# Altium integrated library TI Data Converters Analog to Digital Converter.IntLib: 2197 symbols (part 31 of 168)
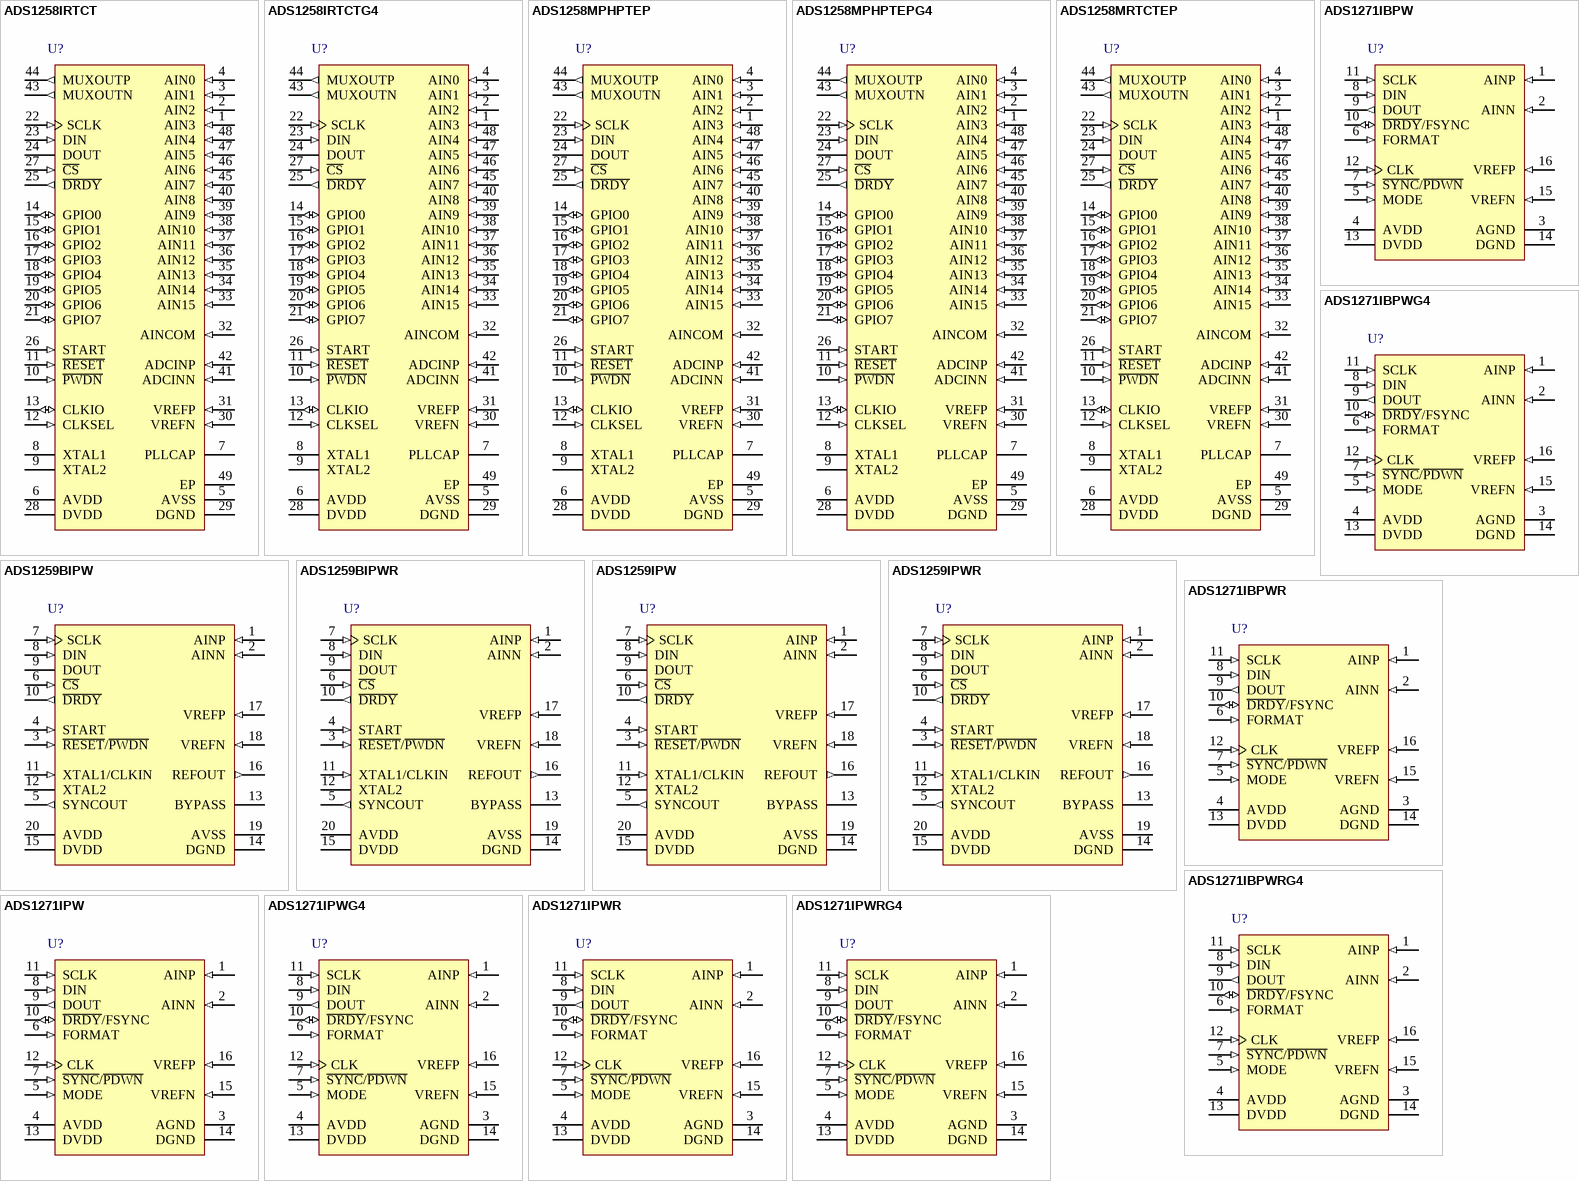
[diagram p156: symbols ADS1258IRTCT to ADS1271IPWRG4]

## ADS1271IPWR
designator U?
24-Bit, 105 kSPS Industrial Delta-Sigma ADC, -40 to 125 degC, 16-pin SOP (PW16), Green (RoHS & no Sb/Br); Manufacturer: Texas Instruments; PartNumber: ADS1271IPWR; # Input Channels: 1; Analog Voltage AV/DD(Max)(V): 5.25; Analog Voltage AV/DD(Min)(V): 4.75; Digital Supply(Max)(V): 3.6; Digital Supply(Min)(V): 1.65; Interface: Serial SPI; Resolution(Bits): 24; Sample Rate (max)(SPS): 105k; SFDR(dB): 108; SNR(dB): 109; SubFamily: Precision ADC (<=10MSPS); DatasheetVersion: SBAS306F; PackageVersion: 4040064-4/G, 02/2011; PackageReference: PW16; PackageDescription: 16-Pin Plastic Small Outline, Body 5 x 4.4 mm, Pitch 0.65 mm; Supplier 1: Digi-Key; Supplier Part Number 1: ADS8505IBDWRG4-ND; Supplier 2: Mouser; Supplier Part Number 2: 595-ADS8505IBDWRG4; Architecture: Delta-Sigma; Eco-Plan: Green (RoHS & no Sb/Br); Mounting Technology: Surface Mount; Code_JEDEC: MO-153; ComponentLink1Description: Manufacturer URL; ComponentLink1URL: http://www.ti.com/; ComponentLink2Description: Datasheet; ComponentLink2URL: http://www.ti.com/general/docs/lit/getliterature.tsp?genericPartNumber=ADS1271&fileType=pdf; ComponentLink3Description: Package Specification; ComponentLink3URL: http://www.ti.com/lit/ml/mpds361/mpds361.pdf
footprint TI-PW16_N (SOP, 16-Leads, Body 5x4.4mm, Pitch 0.65mm, IPC Medium Density)
footprint TI-PW16_L (SOP, 16-Leads, Body 5x4.4mm, Pitch 0.65mm, IPC High Density)
footprint TI-PW16_M (SOP, 16-Leads, Body 5x4.4mm, Pitch 0.65mm, IPC Low Density)
pins: 1 AINP (in) "Positive analog input", 2 AINN (in) "Negative analog input", 3 AGND (power) "Analog ground", 4 AVDD (power) "Analog supply", 5 MODE (in) "MODE = 0: High-Speed mode;MODE = float: High-Resolution mode;MODE = 1: Low-Power mode", 6 FORMAT (in) "FORMAT = 0: SPI;FORMAT = float: Modulator output (ADS1271B only);FORMAT = 1: Frame-Sync", 7 ~{SYNC}/~{PDWN} (in) "Synchronize/Power-down input, active low", 8 DIN (in) "Data input for daisy-chain operation", 9 DOUT (out) "ADC data output, modulator output (modulator mode)", 10 ~{DRDY}/FSYNC (io) "If FORMAT = 0 (SPI), then pin 10 = D\R\D\Y\ output;If FORMAT = 1 (Frame-Sync), then pin 10 = FSYNC input", 11 SCLK (in) "Serial clock for ADC data retrieval, modulator clock output (modulator mode)", 12 CLK (in) "Master clock", 13 DVDD (power) "Digital supply", 14 DGND (power) "Digital ground", 15 VREFN (in) "Negative reference input", 16 VREFP (in) "Positive reference input"

## ADS1271IPWRG4
designator U?
24-Bit, 105 kSPS Industrial Delta-Sigma ADC, -40 to 125 degC, 16-pin SOP (PW16), Green (RoHS & no Sb/Br); Manufacturer: Texas Instruments; PartNumber: ADS1271IPWRG4; # Input Channels: 1; Analog Voltage AV/DD(Max)(V): 5.25; Analog Voltage AV/DD(Min)(V): 4.75; Digital Supply(Max)(V): 3.6; Digital Supply(Min)(V): 1.65; Interface: Serial SPI; Resolution(Bits): 24; Sample Rate (max)(SPS): 105k; SFDR(dB): 108; SNR(dB): 109; SubFamily: Precision ADC (<=10MSPS); DatasheetVersion: SBAS306F; PackageVersion: 4040064-4/G, 02/2011; PackageReference: PW16; PackageDescription: 16-Pin Plastic Small Outline, Body 5 x 4.4 mm, Pitch 0.65 mm; Supplier 1: Digi-Key; Supplier Part Number 1: 296-18678-5-ND; Supplier 2: Farnell; Supplier Part Number 2: 1407071; Supplier 3: Mouser; Supplier Part Number 3: 595-ADS8505IDW; Architecture: Delta-Sigma; Eco-Plan: Green (RoHS & no Sb/Br); Mounting Technology: Surface Mount; Code_JEDEC: MO-153; ComponentLink1Description: Manufacturer URL; ComponentLink1URL: http://www.ti.com/; ComponentLink2Description: Datasheet; ComponentLink2URL: http://www.ti.com/general/docs/lit/getliterature.tsp?genericPartNumber=ADS1271&fileType=pdf; ComponentLink3Description: Package Specification; ComponentLink3URL: http://www.ti.com/lit/ml/mpds361/mpds361.pdf
footprint TI-PW16_N (SOP, 16-Leads, Body 5x4.4mm, Pitch 0.65mm, IPC Medium Density)
footprint TI-PW16_L (SOP, 16-Leads, Body 5x4.4mm, Pitch 0.65mm, IPC High Density)
footprint TI-PW16_M (SOP, 16-Leads, Body 5x4.4mm, Pitch 0.65mm, IPC Low Density)
pins: 1 AINP (in) "Positive analog input", 2 AINN (in) "Negative analog input", 3 AGND (power) "Analog ground", 4 AVDD (power) "Analog supply", 5 MODE (in) "MODE = 0: High-Speed mode;MODE = float: High-Resolution mode;MODE = 1: Low-Power mode", 6 FORMAT (in) "FORMAT = 0: SPI;FORMAT = float: Modulator output (ADS1271B only);FORMAT = 1: Frame-Sync", 7 ~{SYNC}/~{PDWN} (in) "Synchronize/Power-down input, active low", 8 DIN (in) "Data input for daisy-chain operation", 9 DOUT (out) "ADC data output, modulator output (modulator mode)", 10 ~{DRDY}/FSYNC (io) "If FORMAT = 0 (SPI), then pin 10 = D\R\D\Y\ output;If FORMAT = 1 (Frame-Sync), then pin 10 = FSYNC input", 11 SCLK (in) "Serial clock for ADC data retrieval, modulator clock output (modulator mode)", 12 CLK (in) "Master clock", 13 DVDD (power) "Digital supply", 14 DGND (power) "Digital ground", 15 VREFN (in) "Negative reference input", 16 VREFP (in) "Positive reference input"

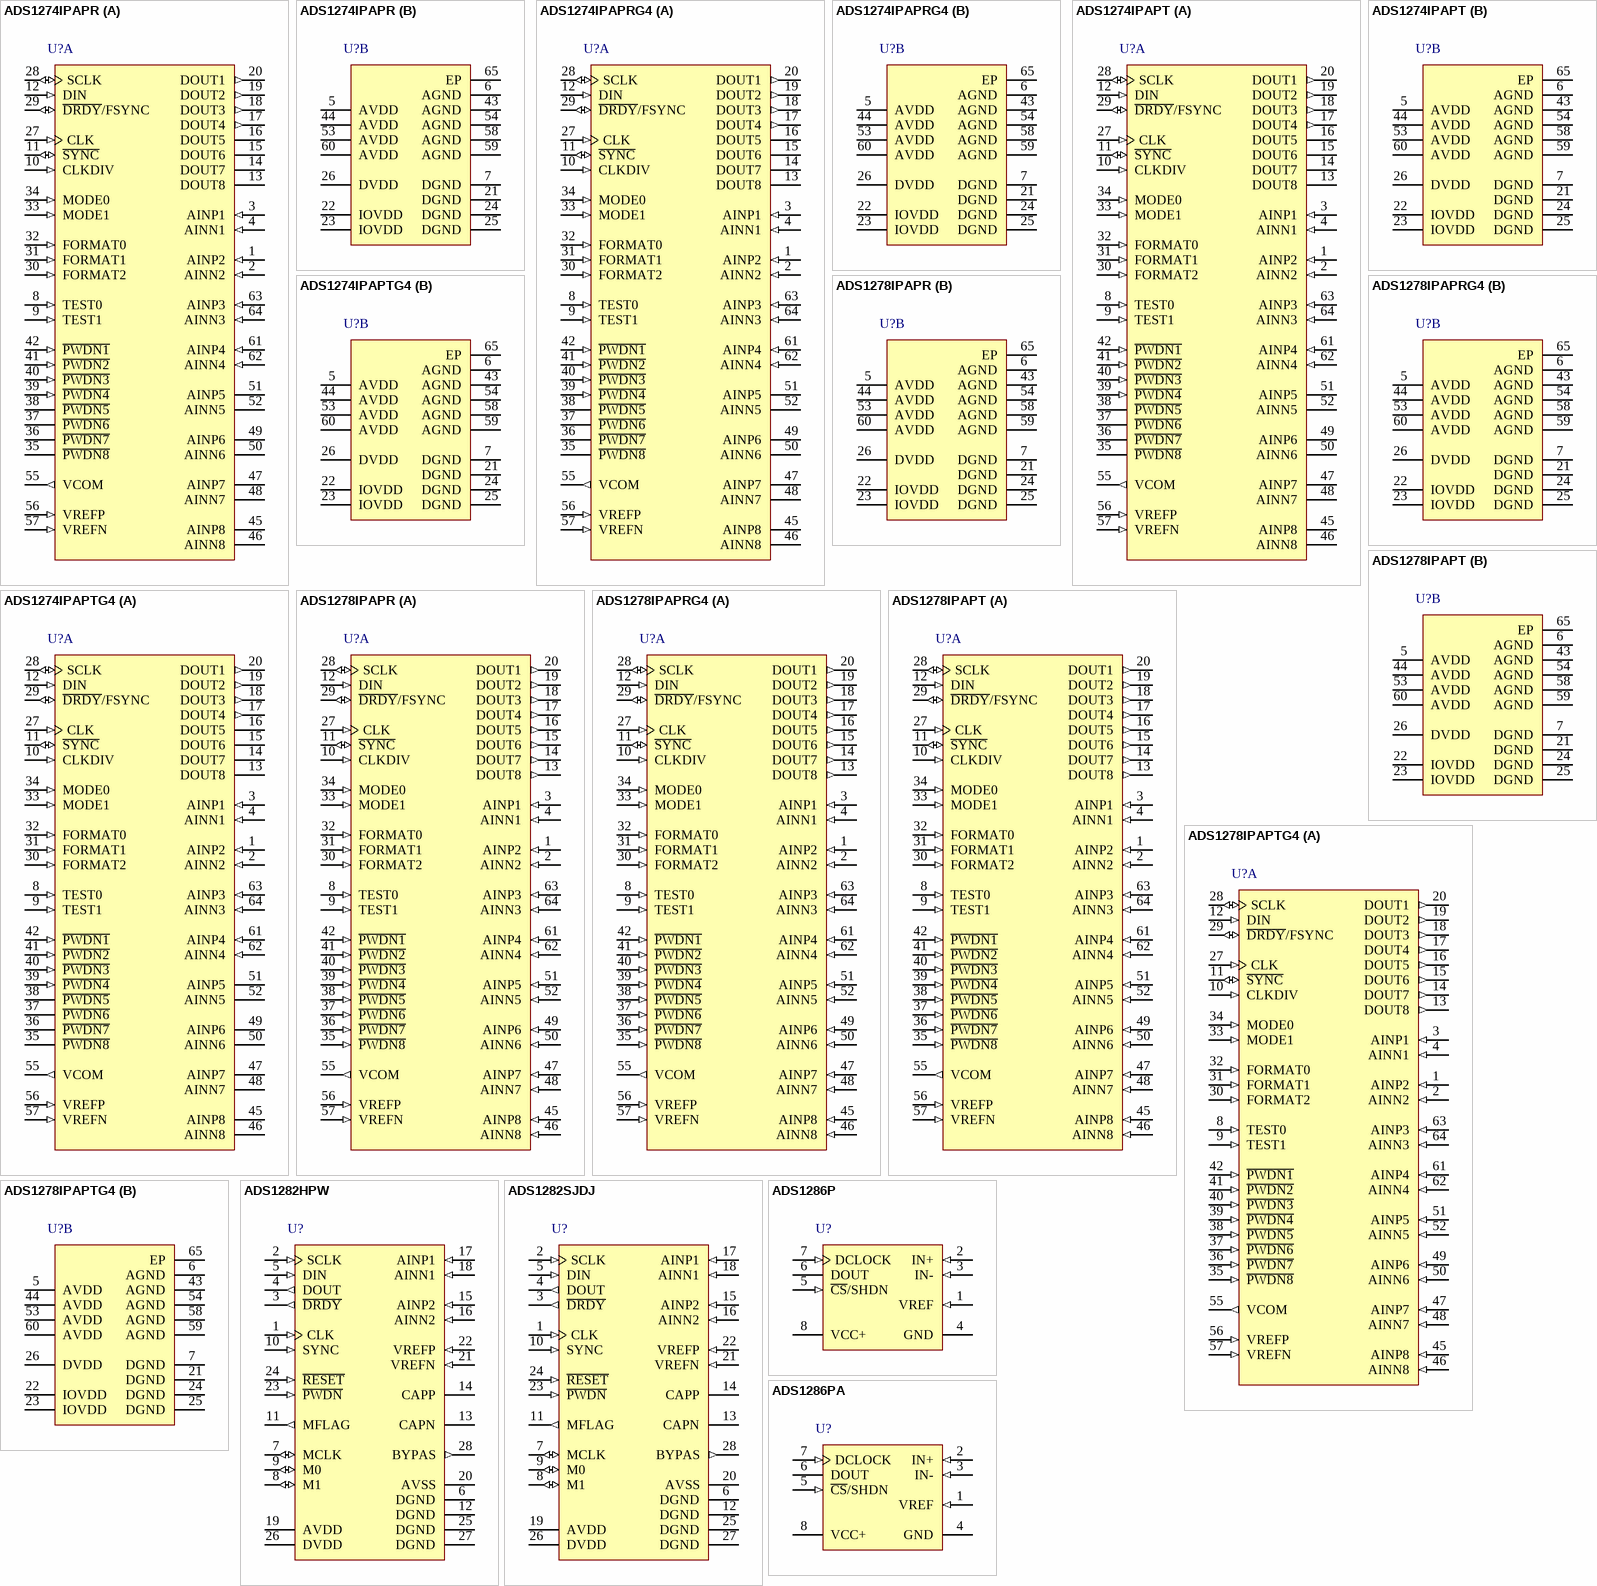
[diagram p24: symbols ADS1274IPAPR to ADS1286PA]

## ADS1274IPAPR
designator U?
Quad, Simultaneous Sampling, 24-Bit ADC, -40 to 125 degC, 64-pin PQFP (PAP64), Green (RoHS & no Sb/Br); Manufacturer: Texas Instruments; PartNumber: ADS1274IPAPR; # Input Channels: 4; Analog Voltage AV/DD(Max)(V): 5.25; Analog Voltage AV/DD(Min)(V): 4.75; Architecture: Delta-Sigma; Digital Supply(Max)(V): 3.6; Digital Supply(Min)(V): 1.65; Interface: Serial SPI; Resolution(Bits): 24; Sample Rate (max) (SPS): 144k; SNR(dB): 111; SubFamily: Precision ADC (<=10MSPS); DatasheetVersion: SBAS367F; PackageVersion: 4147702/C, 08/2003; PackageReference: PAP64-6495X6495TP; PackageDescription: 64-Pin PowerPAD(TM) Plastic Quad Flatpack, Body 10 x 10 mm, Pitch 0.5 mm; Supplier 1: Digi-Key; Supplier Part Number 1: ADS1274IPAPR-ND; Supplier 2: Newark; Supplier Part Number 2: 50M8808; Supplier 3: Mouser; Supplier Part Number 3: 595-ADS1274IPAPR; Mounting Technology: Surface Mount; Code_JEDEC: MS-026; ComponentLink1Description: Manufacturer URL; ComponentLink1URL: http://www.ti.com/; ComponentLink2Description: Datasheet; ComponentLink2URL: http://www.ti.com/lit/ds/symlink/ads1274.pdf; ComponentLink3Description: Package Specification; ComponentLink3URL: http://www.ti.com/lit/ml/mpqf071b/mpqf071b.pdf
footprint TI-PAP64-6495X6495TP_N (QFP, 64-Leads, Body 10x10mm, Pitch 0.5mm, Thermal Pad 7x7mm, IPC Medium Density)
footprint TI-PAP64-6495X6495TP_L (QFP, 64-Leads, Body 10x10mm, Pitch 0.5mm, Thermal Pad 7x7mm, IPC High Density)
footprint TI-PAP64-6495X6495TP_M (QFP, 64-Leads, Body 10x10mm, Pitch 0.5mm, Thermal Pad 7x7mm, IPC Low Density)
part A pins: 1 AINP2 (in) "AINP[4:1] Positive analog input, channels 4 through 1.", 2 AINN2 (in) "AINN[4:1] Negative analog input, channels 4 through 1.", 3 AINP1 (in) "AINP[4:1] Positive analog input, channels 4 through 1.", 4 AINN1 (in) "AINN[4:1] Negative analog input, channels 4 through 1.", 8 TEST0 (in) "TEST[1:0] Test mode select: 00 = Normal operation 01 = Do not use 11 = Test mode 10 = Do not use", 9 TEST1 (in) "TEST[1:0] Test mode select: 00 = Normal operation 01 = Do not use 11 = Test mode 10 = Do not use", 10 CLKDIV (in) "CLK input divider control:1 = 37MHz (High-Speed mode)/otherwise 27MHz  0 = 13.5MHz (low-power)/5.4MHz (low-speed)", 11 ~{SYNC} (io) "Synchronize input (all channels).", 12 DIN (in) "Daisy-chain data input.", 13 DOUT8 "DOUT[8:5] Internally connected to active circuitry; outputs are driven.", 14 DOUT7 "DOUT[8:5] Internally connected to active circuitry; outputs are driven.", 15 DOUT6 "DOUT[8:5] Internally connected to active circuitry; outputs are driven.", 16 DOUT5 "DOUT[8:5] Internally connected to active circuitry; outputs are driven.", 17 DOUT4 (out) "DOUT[4:1] Data output for channels 4 through 1.", 18 DOUT3 (out) "DOUT[4:1] Data output for channels 4 through 1.", 19 DOUT2 (out) "DOUT[4:1] Data output for channels 4 through 1.", 20 DOUT1 (out) "DOUT[4:1] Data output for channels 4 through 1.", 27 CLK (in) "Master clock input (fCLK).", 28 SCLK (io) "Serial clock input, Modulator clock output", 29 ~{DRDY}/FSYNC (io) "Frame-Sync protocol: frame clock input; SPI protocol: data ready output.", 30 FORMAT2 (in) "FORMAT[2:0] Selects Frame-Sync/SPI protocol, TDM/discrete data outputs, fixed/dynamic position TDM data, and modulator mode/normal operating mode.", 31 FORMAT1 (in) "FORMAT[2:0] Selects Frame-Sync/SPI protocol, TDM/discrete data outputs, fixed/dynamic position TDM data, and modulator mode/normal operating mode.", 32 FORMAT0 (in) "FORMAT[2:0] Selects Frame-Sync/SPI protocol, TDM/discrete data outputs, fixed/dynamic position TDM data, and modulator mode/normal operating mode.", 33 MODE1 (in) "MODE[1:0] Selects High-Speed, High-Resolution, Low-Power, or Low-Speed mode operation.", 34 MODE0 (in) "MODE[1:0] Selects High-Speed, High-Resolution, Low-Power, or Low-Speed mode operation.", 35 ~{PWDN8} "P\W\D\N\[8:5] must = 0V", 36 ~{PWDN7} "P\W\D\N\[8:5] must = 0V", 37 ~{PWDN6} "P\W\D\N\[8:5] must = 0V", 38 ~{PWDN5} "P\W\D\N\[8:5] must = 0V", 39 ~{PWDN4} (in) "P\W\D\N\[4:1] Power-down control for channels 4 through 1.", 40 ~{PWDN3} (in) "P\W\D\N\[4:1] Power-down control for channels 4 through 1.", 41 ~{PWDN2} (in) "P\W\D\N\[4:1] Power-down control for channels 4 through 1.", 42 ~{PWDN1} (in) "P\W\D\N\[4:1] Power-down control for channels 4 through 1.", 45 AINP8 "AINP[8:5] Connected to internal ESD rails. The inputs may float", 46 AINN8 "AINN[8:5] Connected to internal ESD rails. The inputs may float", 47 AINP7 "AINP[8:5] Connected to internal ESD rails. The inputs may float", 48 AINN7 "AINN[8:5] Connected to internal ESD rails. The inputs may float", 49 AINP6 "AINP[8:5] Connected to internal ESD rails. The inputs may float", 50 AINN6 "AINN[8:5] Connected to internal ESD rails. The inputs may float", 51 AINP5 "AINP[8:5] Connected to internal ESD rails. The inputs may float", 52 AINN5 "AINN[8:5] Connected to internal ESD rails. The inputs may float", 55 VCOM (out) "AVDD/2 Unbuffered voltage output.", 56 VREFP (in) "Positive reference input.", 57 VREFN (in) "Negative reference input.", 61 AINP4 (in) "AINP[4:1] Positive analog input, channels 4 through 1.", 62 AINN4 (in) "AINN[4:1] Negative analog input, channels 4 through 1.", 63 AINP3 (in) "AINP[4:1] Positive analog input, channels 4 through 1.", 64 AINN3 (in) "AINN[4:1] Negative analog input, channels 4 through 1."
part B pins: 5 AVDD (power) "Analog power supply (4.75V to 5.25V).", 6 AGND (power) "Analog ground; connect to DGND using a single plane.", 7 DGND (power) "Digital ground power supply.", 21 DGND (power) "Digital ground power supply.", 22 IOVDD (power) "I/O power supply (+1.65V to +3.6V)", 23 IOVDD (power) "I/O power supply (+1.65V to +3.6V)", 24 DGND (power) "Digital ground power supply.", 25 DGND (power) "Digital ground power supply.", 26 DVDD (power) "Digital core power supply", 43 AGND (power) "Analog ground; connect to DGND using a single plane.", 44 AVDD (power) "Analog power supply (4.75V to 5.25V).", 53 AVDD (power) "Analog power supply (4.75V to 5.25V).", 54 AGND (power) "Analog ground; connect to DGND using a single plane.", 58 AGND (power) "Analog ground; connect to DGND using a single plane.", 59 AGND (power) "Analog ground; connect to DGND using a single plane.", 60 AVDD (power) "Analog power supply (4.75V to 5.25V).", 65 EP

## ADS1274IPAPRG4
designator U?
Quad, Simultaneous Sampling, 24-Bit ADC, -40 to 125 degC, 64-pin PQFP (PAP64), Green (RoHS & no Sb/Br); Manufacturer: Texas Instruments; PartNumber: ADS1274IPAPRG4; # Input Channels: 4; Analog Voltage AV/DD(Max)(V): 5.25; Analog Voltage AV/DD(Min)(V): 4.75; Architecture: Delta-Sigma; Digital Supply(Max)(V): 3.6; Digital Supply(Min)(V): 1.65; Interface: Serial SPI; Resolution(Bits): 24; Sample Rate (max) (SPS): 144k; SNR(dB): 111; SubFamily: Precision ADC (<=10MSPS); DatasheetVersion: SBAS367F; PackageVersion: 4147702/C, 08/2003; PackageReference: PAP64-6495X6495TP; PackageDescription: 64-Pin PowerPAD(TM) Plastic Quad Flatpack, Body 10 x 10 mm, Pitch 0.5 mm; Supplier 1: Digi-Key; Supplier Part Number 1: ADS1274IPAPRG4-ND; Supplier 2: Newark; Supplier Part Number 2: 52M2890; Supplier 3: Mouser; Supplier Part Number 3: 595-ADS1274IPAPRG4; Mounting Technology: Surface Mount; Code_JEDEC: MS-026; ComponentLink1Description: Manufacturer URL; ComponentLink1URL: http://www.ti.com/; ComponentLink2Description: Datasheet; ComponentLink2URL: http://www.ti.com/lit/ds/symlink/ads1274.pdf; ComponentLink3Description: Package Specification; ComponentLink3URL: http://www.ti.com/lit/ml/mpqf071b/mpqf071b.pdf
footprint TI-PAP64-6495X6495TP_N (QFP, 64-Leads, Body 10x10mm, Pitch 0.5mm, Thermal Pad 7x7mm, IPC Medium Density)
footprint TI-PAP64-6495X6495TP_L (QFP, 64-Leads, Body 10x10mm, Pitch 0.5mm, Thermal Pad 7x7mm, IPC High Density)
footprint TI-PAP64-6495X6495TP_M (QFP, 64-Leads, Body 10x10mm, Pitch 0.5mm, Thermal Pad 7x7mm, IPC Low Density)
part A pins: 1 AINP2 (in) "AINP[4:1] Positive analog input, channels 4 through 1.", 2 AINN2 (in) "AINN[4:1] Negative analog input, channels 4 through 1.", 3 AINP1 (in) "AINP[4:1] Positive analog input, channels 4 through 1.", 4 AINN1 (in) "AINN[4:1] Negative analog input, channels 4 through 1.", 8 TEST0 (in) "TEST[1:0] Test mode select: 00 = Normal operation 01 = Do not use 11 = Test mode 10 = Do not use", 9 TEST1 (in) "TEST[1:0] Test mode select: 00 = Normal operation 01 = Do not use 11 = Test mode 10 = Do not use", 10 CLKDIV (in) "CLK input divider control:1 = 37MHz (High-Speed mode)/otherwise 27MHz  0 = 13.5MHz (low-power)/5.4MHz (low-speed)", 11 ~{SYNC} (io) "Synchronize input (all channels).", 12 DIN (in) "Daisy-chain data input.", 13 DOUT8 "DOUT[8:5] Internally connected to active circuitry; outputs are driven.", 14 DOUT7 "DOUT[8:5] Internally connected to active circuitry; outputs are driven.", 15 DOUT6 "DOUT[8:5] Internally connected to active circuitry; outputs are driven.", 16 DOUT5 "DOUT[8:5] Internally connected to active circuitry; outputs are driven.", 17 DOUT4 (out) "DOUT[4:1] Data output for channels 4 through 1.", 18 DOUT3 (out) "DOUT[4:1] Data output for channels 4 through 1.", 19 DOUT2 (out) "DOUT[4:1] Data output for channels 4 through 1.", 20 DOUT1 (out) "DOUT[4:1] Data output for channels 4 through 1.", 27 CLK (in) "Master clock input (fCLK).", 28 SCLK (io) "Serial clock input, Modulator clock output", 29 ~{DRDY}/FSYNC (io) "Frame-Sync protocol: frame clock input; SPI protocol: data ready output.", 30 FORMAT2 (in) "FORMAT[2:0] Selects Frame-Sync/SPI protocol, TDM/discrete data outputs, fixed/dynamic position TDM data, and modulator mode/normal operating mode.", 31 FORMAT1 (in) "FORMAT[2:0] Selects Frame-Sync/SPI protocol, TDM/discrete data outputs, fixed/dynamic position TDM data, and modulator mode/normal operating mode.", 32 FORMAT0 (in) "FORMAT[2:0] Selects Frame-Sync/SPI protocol, TDM/discrete data outputs, fixed/dynamic position TDM data, and modulator mode/normal operating mode.", 33 MODE1 (in) "MODE[1:0] Selects High-Speed, High-Resolution, Low-Power, or Low-Speed mode operation.", 34 MODE0 (in) "MODE[1:0] Selects High-Speed, High-Resolution, Low-Power, or Low-Speed mode operation.", 35 ~{PWDN8} "P\W\D\N\[8:5] must = 0V", 36 ~{PWDN7} "P\W\D\N\[8:5] must = 0V", 37 ~{PWDN6} "P\W\D\N\[8:5] must = 0V", 38 ~{PWDN5} "P\W\D\N\[8:5] must = 0V", 39 ~{PWDN4} (in) "P\W\D\N\[4:1] Power-down control for channels 4 through 1.", 40 ~{PWDN3} (in) "P\W\D\N\[4:1] Power-down control for channels 4 through 1.", 41 ~{PWDN2} (in) "P\W\D\N\[4:1] Power-down control for channels 4 through 1.", 42 ~{PWDN1} (in) "P\W\D\N\[4:1] Power-down control for channels 4 through 1.", 45 AINP8 "AINP[8:5] Connected to internal ESD rails. The inputs may float", 46 AINN8 "AINN[8:5] Connected to internal ESD rails. The inputs may float", 47 AINP7 "AINP[8:5] Connected to internal ESD rails. The inputs may float", 48 AINN7 "AINN[8:5] Connected to internal ESD rails. The inputs may float", 49 AINP6 "AINP[8:5] Connected to internal ESD rails. The inputs may float", 50 AINN6 "AINN[8:5] Connected to internal ESD rails. The inputs may float", 51 AINP5 "AINP[8:5] Connected to internal ESD rails. The inputs may float", 52 AINN5 "AINN[8:5] Connected to internal ESD rails. The inputs may float", 55 VCOM (out) "AVDD/2 Unbuffered voltage output.", 56 VREFP (in) "Positive reference input.", 57 VREFN (in) "Negative reference input.", 61 AINP4 (in) "AINP[4:1] Positive analog input, channels 4 through 1.", 62 AINN4 (in) "AINN[4:1] Negative analog input, channels 4 through 1.", 63 AINP3 (in) "AINP[4:1] Positive analog input, channels 4 through 1.", 64 AINN3 (in) "AINN[4:1] Negative analog input, channels 4 through 1."
part B pins: 5 AVDD (power) "Analog power supply (4.75V to 5.25V).", 6 AGND (power) "Analog ground; connect to DGND using a single plane.", 7 DGND (power) "Digital ground power supply.", 21 DGND (power) "Digital ground power supply.", 22 IOVDD (power) "I/O power supply (+1.65V to +3.6V)", 23 IOVDD (power) "I/O power supply (+1.65V to +3.6V)", 24 DGND (power) "Digital ground power supply.", 25 DGND (power) "Digital ground power supply.", 26 DVDD (power) "Digital core power supply", 43 AGND (power) "Analog ground; connect to DGND using a single plane.", 44 AVDD (power) "Analog power supply (4.75V to 5.25V).", 53 AVDD (power) "Analog power supply (4.75V to 5.25V).", 54 AGND (power) "Analog ground; connect to DGND using a single plane.", 58 AGND (power) "Analog ground; connect to DGND using a single plane.", 59 AGND (power) "Analog ground; connect to DGND using a single plane.", 60 AVDD (power) "Analog power supply (4.75V to 5.25V).", 65 EP

## ADS1274IPAPT
designator U?
Quad, Simultaneous Sampling, 24-Bit ADC, -40 to 125 degC, 64-pin PQFP (PAP64), Green (RoHS & no Sb/Br); Manufacturer: Texas Instruments; PartNumber: ADS1274IPAPT; # Input Channels: 4; Analog Voltage AV/DD(Max)(V): 5.25; Analog Voltage AV/DD(Min)(V): 4.75; Architecture: Delta-Sigma; Digital Supply(Max)(V): 3.6; Digital Supply(Min)(V): 1.65; Interface: Serial SPI; Resolution(Bits): 24; Sample Rate (max) (SPS): 144k; SNR(dB): 111; SubFamily: Precision ADC (<=10MSPS); DatasheetVersion: SBAS367F; PackageVersion: 4147702/C, 08/2003; PackageReference: PAP64-6495X6495TP; PackageDescription: 64-Pin PowerPAD(TM) Plastic Quad Flatpack, Body 10 x 10 mm, Pitch 0.5 mm; Supplier 1: Digi-Key; Supplier Part Number 1: 296-22078-2-ND; Supplier 2: Digi-Key; Supplier Part Number 2: 296-22078-1-ND; Supplier 3: Digi-Key; Supplier Part Number 3: 296-22078-6-ND; Supplier 4: Farnell; Supplier Part Number 4: 1603418; Supplier 5: Newark; Supplier Part Number 5: 50M8809; Supplier 6: Mouser; Supplier Part Number 6: 595-ADS1274IPAPT; Mounting Technology: Surface Mount; Code_JEDEC: MS-026; ComponentLink1Description: Manufacturer URL; ComponentLink1URL: http://www.ti.com/; ComponentLink2Description: Datasheet; ComponentLink2URL: http://www.ti.com/lit/ds/symlink/ads1274.pdf; ComponentLink3Description: Package Specification; ComponentLink3URL: http://www.ti.com/lit/ml/mpqf071b/mpqf071b.pdf
footprint TI-PAP64-6495X6495TP_N (QFP, 64-Leads, Body 10x10mm, Pitch 0.5mm, Thermal Pad 7x7mm, IPC Medium Density)
footprint TI-PAP64-6495X6495TP_L (QFP, 64-Leads, Body 10x10mm, Pitch 0.5mm, Thermal Pad 7x7mm, IPC High Density)
footprint TI-PAP64-6495X6495TP_M (QFP, 64-Leads, Body 10x10mm, Pitch 0.5mm, Thermal Pad 7x7mm, IPC Low Density)
part A pins: 1 AINP2 (in) "AINP[4:1] Positive analog input, channels 4 through 1.", 2 AINN2 (in) "AINN[4:1] Negative analog input, channels 4 through 1.", 3 AINP1 (in) "AINP[4:1] Positive analog input, channels 4 through 1.", 4 AINN1 (in) "AINN[4:1] Negative analog input, channels 4 through 1.", 8 TEST0 (in) "TEST[1:0] Test mode select: 00 = Normal operation 01 = Do not use 11 = Test mode 10 = Do not use", 9 TEST1 (in) "TEST[1:0] Test mode select: 00 = Normal operation 01 = Do not use 11 = Test mode 10 = Do not use", 10 CLKDIV (in) "CLK input divider control:1 = 37MHz (High-Speed mode)/otherwise 27MHz  0 = 13.5MHz (low-power)/5.4MHz (low-speed)", 11 ~{SYNC} (io) "Synchronize input (all channels).", 12 DIN (in) "Daisy-chain data input.", 13 DOUT8 "DOUT[8:5] Internally connected to active circuitry; outputs are driven.", 14 DOUT7 "DOUT[8:5] Internally connected to active circuitry; outputs are driven.", 15 DOUT6 "DOUT[8:5] Internally connected to active circuitry; outputs are driven.", 16 DOUT5 "DOUT[8:5] Internally connected to active circuitry; outputs are driven.", 17 DOUT4 (out) "DOUT[4:1] Data output for channels 4 through 1.", 18 DOUT3 (out) "DOUT[4:1] Data output for channels 4 through 1.", 19 DOUT2 (out) "DOUT[4:1] Data output for channels 4 through 1.", 20 DOUT1 (out) "DOUT[4:1] Data output for channels 4 through 1.", 27 CLK (in) "Master clock input (fCLK).", 28 SCLK (io) "Serial clock input, Modulator clock output", 29 ~{DRDY}/FSYNC (io) "Frame-Sync protocol: frame clock input; SPI protocol: data ready output.", 30 FORMAT2 (in) "FORMAT[2:0] Selects Frame-Sync/SPI protocol, TDM/discrete data outputs, fixed/dynamic position TDM data, and modulator mode/normal operating mode.", 31 FORMAT1 (in) "FORMAT[2:0] Selects Frame-Sync/SPI protocol, TDM/discrete data outputs, fixed/dynamic position TDM data, and modulator mode/normal operating mode.", 32 FORMAT0 (in) "FORMAT[2:0] Selects Frame-Sync/SPI protocol, TDM/discrete data outputs, fixed/dynamic position TDM data, and modulator mode/normal operating mode.", 33 MODE1 (in) "MODE[1:0] Selects High-Speed, High-Resolution, Low-Power, or Low-Speed mode operation.", 34 MODE0 (in) "MODE[1:0] Selects High-Speed, High-Resolution, Low-Power, or Low-Speed mode operation.", 35 ~{PWDN8} "P\W\D\N\[8:5] must = 0V", 36 ~{PWDN7} "P\W\D\N\[8:5] must = 0V", 37 ~{PWDN6} "P\W\D\N\[8:5] must = 0V", 38 ~{PWDN5} "P\W\D\N\[8:5] must = 0V", 39 ~{PWDN4} (in) "P\W\D\N\[4:1] Power-down control for channels 4 through 1.", 40 ~{PWDN3} (in) "P\W\D\N\[4:1] Power-down control for channels 4 through 1.", 41 ~{PWDN2} (in) "P\W\D\N\[4:1] Power-down control for channels 4 through 1.", 42 ~{PWDN1} (in) "P\W\D\N\[4:1] Power-down control for channels 4 through 1.", 45 AINP8 "AINP[8:5] Connected to internal ESD rails. The inputs may float", 46 AINN8 "AINN[8:5] Connected to internal ESD rails. The inputs may float", 47 AINP7 "AINP[8:5] Connected to internal ESD rails. The inputs may float", 48 AINN7 "AINN[8:5] Connected to internal ESD rails. The inputs may float", 49 AINP6 "AINP[8:5] Connected to internal ESD rails. The inputs may float", 50 AINN6 "AINN[8:5] Connected to internal ESD rails. The inputs may float", 51 AINP5 "AINP[8:5] Connected to internal ESD rails. The inputs may float", 52 AINN5 "AINN[8:5] Connected to internal ESD rails. The inputs may float", 55 VCOM (out) "AVDD/2 Unbuffered voltage output.", 56 VREFP (in) "Positive reference input.", 57 VREFN (in) "Negative reference input.", 61 AINP4 (in) "AINP[4:1] Positive analog input, channels 4 through 1.", 62 AINN4 (in) "AINN[4:1] Negative analog input, channels 4 through 1.", 63 AINP3 (in) "AINP[4:1] Positive analog input, channels 4 through 1.", 64 AINN3 (in) "AINN[4:1] Negative analog input, channels 4 through 1."
part B pins: 5 AVDD (power) "Analog power supply (4.75V to 5.25V).", 6 AGND (power) "Analog ground; connect to DGND using a single plane.", 7 DGND (power) "Digital ground power supply.", 21 DGND (power) "Digital ground power supply.", 22 IOVDD (power) "I/O power supply (+1.65V to +3.6V)", 23 IOVDD (power) "I/O power supply (+1.65V to +3.6V)", 24 DGND (power) "Digital ground power supply.", 25 DGND (power) "Digital ground power supply.", 26 DVDD (power) "Digital core power supply", 43 AGND (power) "Analog ground; connect to DGND using a single plane.", 44 AVDD (power) "Analog power supply (4.75V to 5.25V).", 53 AVDD (power) "Analog power supply (4.75V to 5.25V).", 54 AGND (power) "Analog ground; connect to DGND using a single plane.", 58 AGND (power) "Analog ground; connect to DGND using a single plane.", 59 AGND (power) "Analog ground; connect to DGND using a single plane.", 60 AVDD (power) "Analog power supply (4.75V to 5.25V).", 65 EP

## ADS1274IPAPTG4
designator U?
Quad, Simultaneous Sampling, 24-Bit ADC, -40 to 125 degC, 64-pin PQFP (PAP64), Green (RoHS & no Sb/Br); Manufacturer: Texas Instruments; PartNumber: ADS1274IPAPTG4; # Input Channels: 4; Analog Voltage AV/DD(Max)(V): 5.25; Analog Voltage AV/DD(Min)(V): 4.75; Architecture: Delta-Sigma; Digital Supply(Max)(V): 3.6; Digital Supply(Min)(V): 1.65; Interface: Serial SPI; Resolution(Bits): 24; Sample Rate (max) (SPS): 144k; SNR(dB): 111; SubFamily: Precision ADC (<=10MSPS); DatasheetVersion: SBAS367F; PackageVersion: 4147702/C, 08/2003; PackageReference: PAP64-6495X6495TP; PackageDescription: 64-Pin PowerPAD(TM) Plastic Quad Flatpack, Body 10 x 10 mm, Pitch 0.5 mm; Supplier 1: Digi-Key; Supplier Part Number 1: ADS1274IPAPTG4-ND; Supplier 2: Mouser; Supplier Part Number 2: 595-ADS1274IPAPTG4; Mounting Technology: Surface Mount; Code_JEDEC: MS-026; ComponentLink1Description: Manufacturer URL; ComponentLink1URL: http://www.ti.com/; ComponentLink2Description: Datasheet; ComponentLink2URL: http://www.ti.com/lit/ds/symlink/ads1274.pdf; ComponentLink3Description: Package Specification; ComponentLink3URL: http://www.ti.com/lit/ml/mpqf071b/mpqf071b.pdf
footprint TI-PAP64-6495X6495TP_N (QFP, 64-Leads, Body 10x10mm, Pitch 0.5mm, Thermal Pad 7x7mm, IPC Medium Density)
footprint TI-PAP64-6495X6495TP_L (QFP, 64-Leads, Body 10x10mm, Pitch 0.5mm, Thermal Pad 7x7mm, IPC High Density)
footprint TI-PAP64-6495X6495TP_M (QFP, 64-Leads, Body 10x10mm, Pitch 0.5mm, Thermal Pad 7x7mm, IPC Low Density)
part A pins: 1 AINP2 (in) "AINP[4:1] Positive analog input, channels 4 through 1.", 2 AINN2 (in) "AINN[4:1] Negative analog input, channels 4 through 1.", 3 AINP1 (in) "AINP[4:1] Positive analog input, channels 4 through 1.", 4 AINN1 (in) "AINN[4:1] Negative analog input, channels 4 through 1.", 8 TEST0 (in) "TEST[1:0] Test mode select: 00 = Normal operation 01 = Do not use 11 = Test mode 10 = Do not use", 9 TEST1 (in) "TEST[1:0] Test mode select: 00 = Normal operation 01 = Do not use 11 = Test mode 10 = Do not use", 10 CLKDIV (in) "CLK input divider control:1 = 37MHz (High-Speed mode)/otherwise 27MHz  0 = 13.5MHz (low-power)/5.4MHz (low-speed)", 11 ~{SYNC} (io) "Synchronize input (all channels).", 12 DIN (in) "Daisy-chain data input.", 13 DOUT8 "DOUT[8:5] Internally connected to active circuitry; outputs are driven.", 14 DOUT7 "DOUT[8:5] Internally connected to active circuitry; outputs are driven.", 15 DOUT6 "DOUT[8:5] Internally connected to active circuitry; outputs are driven.", 16 DOUT5 "DOUT[8:5] Internally connected to active circuitry; outputs are driven.", 17 DOUT4 (out) "DOUT[4:1] Data output for channels 4 through 1.", 18 DOUT3 (out) "DOUT[4:1] Data output for channels 4 through 1.", 19 DOUT2 (out) "DOUT[4:1] Data output for channels 4 through 1.", 20 DOUT1 (out) "DOUT[4:1] Data output for channels 4 through 1.", 27 CLK (in) "Master clock input (fCLK).", 28 SCLK (io) "Serial clock input, Modulator clock output", 29 ~{DRDY}/FSYNC (io) "Frame-Sync protocol: frame clock input; SPI protocol: data ready output.", 30 FORMAT2 (in) "FORMAT[2:0] Selects Frame-Sync/SPI protocol, TDM/discrete data outputs, fixed/dynamic position TDM data, and modulator mode/normal operating mode.", 31 FORMAT1 (in) "FORMAT[2:0] Selects Frame-Sync/SPI protocol, TDM/discrete data outputs, fixed/dynamic position TDM data, and modulator mode/normal operating mode.", 32 FORMAT0 (in) "FORMAT[2:0] Selects Frame-Sync/SPI protocol, TDM/discrete data outputs, fixed/dynamic position TDM data, and modulator mode/normal operating mode.", 33 MODE1 (in) "MODE[1:0] Selects High-Speed, High-Resolution, Low-Power, or Low-Speed mode operation.", 34 MODE0 (in) "MODE[1:0] Selects High-Speed, High-Resolution, Low-Power, or Low-Speed mode operation.", 35 ~{PWDN8} "P\W\D\N\[8:5] must = 0V", 36 ~{PWDN7} "P\W\D\N\[8:5] must = 0V", 37 ~{PWDN6} "P\W\D\N\[8:5] must = 0V", 38 ~{PWDN5} "P\W\D\N\[8:5] must = 0V", 39 ~{PWDN4} (in) "P\W\D\N\[4:1] Power-down control for channels 4 through 1.", 40 ~{PWDN3} (in) "P\W\D\N\[4:1] Power-down control for channels 4 through 1.", 41 ~{PWDN2} (in) "P\W\D\N\[4:1] Power-down control for channels 4 through 1.", 42 ~{PWDN1} (in) "P\W\D\N\[4:1] Power-down control for channels 4 through 1.", 45 AINP8 "AINP[8:5] Connected to internal ESD rails. The inputs may float", 46 AINN8 "AINN[8:5] Connected to internal ESD rails. The inputs may float", 47 AINP7 "AINP[8:5] Connected to internal ESD rails. The inputs may float", 48 AINN7 "AINN[8:5] Connected to internal ESD rails. The inputs may float", 49 AINP6 "AINP[8:5] Connected to internal ESD rails. The inputs may float", 50 AINN6 "AINN[8:5] Connected to internal ESD rails. The inputs may float", 51 AINP5 "AINP[8:5] Connected to internal ESD rails. The inputs may float", 52 AINN5 "AINN[8:5] Connected to internal ESD rails. The inputs may float", 55 VCOM (out) "AVDD/2 Unbuffered voltage output.", 56 VREFP (in) "Positive reference input.", 57 VREFN (in) "Negative reference input.", 61 AINP4 (in) "AINP[4:1] Positive analog input, channels 4 through 1.", 62 AINN4 (in) "AINN[4:1] Negative analog input, channels 4 through 1.", 63 AINP3 (in) "AINP[4:1] Positive analog input, channels 4 through 1.", 64 AINN3 (in) "AINN[4:1] Negative analog input, channels 4 through 1."
part B pins: 5 AVDD (power) "Analog power supply (4.75V to 5.25V).", 6 AGND (power) "Analog ground; connect to DGND using a single plane.", 7 DGND (power) "Digital ground power supply.", 21 DGND (power) "Digital ground power supply.", 22 IOVDD (power) "I/O power supply (+1.65V to +3.6V)", 23 IOVDD (power) "I/O power supply (+1.65V to +3.6V)", 24 DGND (power) "Digital ground power supply.", 25 DGND (power) "Digital ground power supply.", 26 DVDD (power) "Digital core power supply", 43 AGND (power) "Analog ground; connect to DGND using a single plane.", 44 AVDD (power) "Analog power supply (4.75V to 5.25V).", 53 AVDD (power) "Analog power supply (4.75V to 5.25V).", 54 AGND (power) "Analog ground; connect to DGND using a single plane.", 58 AGND (power) "Analog ground; connect to DGND using a single plane.", 59 AGND (power) "Analog ground; connect to DGND using a single plane.", 60 AVDD (power) "Analog power supply (4.75V to 5.25V).", 65 EP

## ADS1278IPAPR
designator U?
Octal, Simultaneous Sampling, 24-Bit ADC, -40 to 105 degC, 64-pin PQFP (PAP64), Green (RoHS & no Sb/Br); Manufacturer: Texas Instruments; PartNumber: ADS1278IPAPR; # Input Channels: 8; Analog Voltage AV/DD(Max)(V): 5.25; Analog Voltage AV/DD(Min)(V): 4.75; Architecture: Delta-Sigma; Digital Supply(Max)(V): 3.6; Digital Supply(Min)(V): 1.65; Interface: Serial SPI; Resolution(Bits): 24; Sample Rate (max) (SPS): 144k; SNR(dB): 111; SubFamily: Precision ADC (<=10MSPS); DatasheetVersion: SBAS367F; PackageVersion: 4147702/C, 08/2003; PackageReference: PAP64-6495X6495TP; PackageDescription: 64-Pin PowerPAD(TM) Plastic Quad Flatpack, Body 10 x 10 mm, Pitch 0.5 mm; Supplier 1: Digi-Key; Supplier Part Number 1: ADS1278IPAPR-ND; Supplier 2: Newark; Supplier Part Number 2: 50M8810; Supplier 3: Mouser; Supplier Part Number 3: 595-ADS1278IPAPR; Mounting Technology: Surface Mount; Code_JEDEC: MS-026; ComponentLink1Description: Manufacturer URL; ComponentLink1URL: http://www.ti.com/; ComponentLink2Description: Datasheet; ComponentLink2URL: http://www.ti.com/lit/ds/symlink/ads1274.pdf; ComponentLink3Description: Package Specification; ComponentLink3URL: http://www.ti.com/lit/ml/mpqf071b/mpqf071b.pdf
footprint TI-PAP64-6495X6495TP_N (QFP, 64-Leads, Body 10x10mm, Pitch 0.5mm, Thermal Pad 7x7mm, IPC Medium Density)
footprint TI-PAP64-6495X6495TP_L (QFP, 64-Leads, Body 10x10mm, Pitch 0.5mm, Thermal Pad 7x7mm, IPC High Density)
footprint TI-PAP64-6495X6495TP_M (QFP, 64-Leads, Body 10x10mm, Pitch 0.5mm, Thermal Pad 7x7mm, IPC Low Density)
part A pins: 1 AINP2 (in) "AINP[8:1] Positive analog input, channels 8 through 1.", 2 AINN2 (in) "AINN[8:1] Negative analog input, channels 8 through 1.", 3 AINP1 (in) "AINP[8:1] Positive analog input, channels 8 through 1.", 4 AINN1 (in) "AINN[8:1] Negative analog input, channels 8 through 1.", 8 TEST0 (in) "TEST[1:0] Test mode select: 00 = Normal operation 01 = Do not use 11 = Test mode 10 = Do not use", 9 TEST1 (in) "TEST[1:0] Test mode select: 00 = Normal operation 01 = Do not use 11 = Test mode 10 = Do not use", 10 CLKDIV (in) "CLK input divider control:1 = 37MHz (High-Speed mode)/otherwise 27MHz  0 = 13.5MHz (low-power)/5.4MHz (low-speed)", 11 ~{SYNC} (io) "Synchronize input (all channels).", 12 DIN (in) "Daisy-chain data input.", 13 DOUT8 (out) "DOUT[8:1] Data output for channels 8 through 1.", 14 DOUT7 (out) "DOUT[8:1] Data output for channels 8 through 1.", 15 DOUT6 (out) "DOUT[8:1] Data output for channels 8 through 1.", 16 DOUT5 (out) "DOUT[8:1] Data output for channels 8 through 1.", 17 DOUT4 (out) "DOUT[8:1] Data output for channels 8 through 1.", 18 DOUT3 (out) "DOUT[8:1] Data output for channels 8 through 1.", 19 DOUT2 (out) "DOUT[8:1] Data output for channels 8 through 1.", 20 DOUT1 (out) "DOUT[8:1] Data output for channels 8 through 1.", 27 CLK (in) "Master clock input (fCLK).", 28 SCLK (io) "Serial clock input, Modulator clock output", 29 ~{DRDY}/FSYNC (io) "Frame-Sync protocol: frame clock input; SPI protocol: data ready output.", 30 FORMAT2 (in) "FORMAT[2:0] Selects Frame-Sync/SPI protocol, TDM/discrete data outputs, fixed/dynamic position TDM data, and modulator mode/normal operating mode.", 31 FORMAT1 (in) "FORMAT[2:0] Selects Frame-Sync/SPI protocol, TDM/discrete data outputs, fixed/dynamic position TDM data, and modulator mode/normal operating mode.", 32 FORMAT0 (in) "FORMAT[2:0] Selects Frame-Sync/SPI protocol, TDM/discrete data outputs, fixed/dynamic position TDM data, and modulator mode/normal operating mode.", 33 MODE1 (in) "MODE[1:0] Selects High-Speed, High-Resolution, Low-Power, or Low-Speed mode operation.", 34 MODE0 (in) "MODE[1:0] Selects High-Speed, High-Resolution, Low-Power, or Low-Speed mode operation.", 35 ~{PWDN8} (in) "P\W\D\N\[8:1] Power-down control for channels 8 through 1.", 36 ~{PWDN7} (in) "P\W\D\N\[8:1] Power-down control for channels 8 through 1.", 37 ~{PWDN6} (in) "P\W\D\N\[8:1] Power-down control for channels 8 through 1.", 38 ~{PWDN5} (in) "P\W\D\N\[8:1] Power-down control for channels 8 through 1.", 39 ~{PWDN4} (in) "P\W\D\N\[8:1] Power-down control for channels 8 through 1.", 40 ~{PWDN3} (in) "P\W\D\N\[8:1] Power-down control for channels 8 through 1.", 41 ~{PWDN2} (in) "P\W\D\N\[8:1] Power-down control for channels 8 through 1.", 42 ~{PWDN1} (in) "P\W\D\N\[8:1] Power-down control for channels 8 through 1.", 45 AINP8 (in) "AINP[8:1] Positive analog input, channels 8 through 1.", 46 AINN8 (in) "AINN[8:1] Negative analog input, channels 8 through 1.", 47 AINP7 (in) "AINP[8:1] Positive analog input, channels 8 through 1.", 48 AINN7 (in) "AINN[8:1] Negative analog input, channels 8 through 1.", 49 AINP6 (in) "AINP[8:1] Positive analog input, channels 8 through 1.", 50 AINN6 (in) "AINN[8:1] Negative analog input, channels 8 through 1.", 51 AINP5 (in) "AINP[8:1] Positive analog input, channels 8 through 1.", 52 AINN5 (in) "AINN[8:1] Negative analog input, channels 8 through 1.", 55 VCOM (out) "AVDD/2 Unbuffered voltage output.", 56 VREFP (in) "Positive reference input.", 57 VREFN (in) "Negative reference input.", 61 AINP4 (in) "AINP[8:1] Positive analog input, channels 8 through 1.", 62 AINN4 (in) "AINN[8:1] Negative analog input, channels 8 through 1.", 63 AINP3 (in) "AINP[8:1] Positive analog input, channels 8 through 1.", 64 AINN3 (in) "AINN[8:1] Negative analog input, channels 8 through 1."
part B pins: 5 AVDD (power) "Analog power supply (4.75V to 5.25V).", 6 AGND (power) "Analog ground; connect to DGND using a single plane.", 7 DGND (power) "Digital ground power supply.", 21 DGND (power) "Digital ground power supply.", 22 IOVDD (power) "I/O power supply (+1.65V to +3.6V)", 23 IOVDD (power) "I/O power supply (+1.65V to +3.6V)", 24 DGND (power) "Digital ground power supply.", 25 DGND (power) "Digital ground power supply.", 26 DVDD (power) "Digital core power supply", 43 AGND (power) "Analog ground; connect to DGND using a single plane.", 44 AVDD (power) "Analog power supply (4.75V to 5.25V).", 53 AVDD (power) "Analog power supply (4.75V to 5.25V).", 54 AGND (power) "Analog ground; connect to DGND using a single plane.", 58 AGND (power) "Analog ground; connect to DGND using a single plane.", 59 AGND (power) "Analog ground; connect to DGND using a single plane.", 60 AVDD (power) "Analog power supply (4.75V to 5.25V).", 65 EP

## ADS1278IPAPRG4
designator U?
Octal, Simultaneous Sampling, 24-Bit ADC, -40 to 105 degC, 64-pin PQFP (PAP64), Green (RoHS & no Sb/Br); Manufacturer: Texas Instruments; PartNumber: ADS1278IPAPRG4; # Input Channels: 8; Analog Voltage AV/DD(Max)(V): 5.25; Analog Voltage AV/DD(Min)(V): 4.75; Architecture: Delta-Sigma; Digital Supply(Max)(V): 3.6; Digital Supply(Min)(V): 1.65; Interface: Serial SPI; Resolution(Bits): 24; Sample Rate (max) (SPS): 144k; SNR(dB): 111; SubFamily: Precision ADC (<=10MSPS); DatasheetVersion: SBAS367F; PackageVersion: 4147702/C, 08/2003; PackageReference: PAP64-6495X6495TP; PackageDescription: 64-Pin PowerPAD(TM) Plastic Quad Flatpack, Body 10 x 10 mm, Pitch 0.5 mm; Supplier 1: Digi-Key; Supplier Part Number 1: ADS1278IPAPRG4-ND; Supplier 2: Mouser; Supplier Part Number 2: 595-ADS1278IPAPRG4; Mounting Technology: Surface Mount; Code_JEDEC: MS-026; ComponentLink1Description: Manufacturer URL; ComponentLink1URL: http://www.ti.com/; ComponentLink2Description: Datasheet; ComponentLink2URL: http://www.ti.com/lit/ds/symlink/ads1274.pdf; ComponentLink3Description: Package Specification; ComponentLink3URL: http://www.ti.com/lit/ml/mpqf071b/mpqf071b.pdf
footprint TI-PAP64-6495X6495TP_N (QFP, 64-Leads, Body 10x10mm, Pitch 0.5mm, Thermal Pad 7x7mm, IPC Medium Density)
footprint TI-PAP64-6495X6495TP_L (QFP, 64-Leads, Body 10x10mm, Pitch 0.5mm, Thermal Pad 7x7mm, IPC High Density)
footprint TI-PAP64-6495X6495TP_M (QFP, 64-Leads, Body 10x10mm, Pitch 0.5mm, Thermal Pad 7x7mm, IPC Low Density)
part A pins: 1 AINP2 (in) "AINP[8:1] Positive analog input, channels 8 through 1.", 2 AINN2 (in) "AINN[8:1] Negative analog input, channels 8 through 1.", 3 AINP1 (in) "AINP[8:1] Positive analog input, channels 8 through 1.", 4 AINN1 (in) "AINN[8:1] Negative analog input, channels 8 through 1.", 8 TEST0 (in) "TEST[1:0] Test mode select: 00 = Normal operation 01 = Do not use 11 = Test mode 10 = Do not use", 9 TEST1 (in) "TEST[1:0] Test mode select: 00 = Normal operation 01 = Do not use 11 = Test mode 10 = Do not use", 10 CLKDIV (in) "CLK input divider control:1 = 37MHz (High-Speed mode)/otherwise 27MHz  0 = 13.5MHz (low-power)/5.4MHz (low-speed)", 11 ~{SYNC} (io) "Synchronize input (all channels).", 12 DIN (in) "Daisy-chain data input.", 13 DOUT8 (out) "DOUT[8:1] Data output for channels 8 through 1.", 14 DOUT7 (out) "DOUT[8:1] Data output for channels 8 through 1.", 15 DOUT6 (out) "DOUT[8:1] Data output for channels 8 through 1.", 16 DOUT5 (out) "DOUT[8:1] Data output for channels 8 through 1.", 17 DOUT4 (out) "DOUT[8:1] Data output for channels 8 through 1.", 18 DOUT3 (out) "DOUT[8:1] Data output for channels 8 through 1.", 19 DOUT2 (out) "DOUT[8:1] Data output for channels 8 through 1.", 20 DOUT1 (out) "DOUT[8:1] Data output for channels 8 through 1.", 27 CLK (in) "Master clock input (fCLK).", 28 SCLK (io) "Serial clock input, Modulator clock output", 29 ~{DRDY}/FSYNC (io) "Frame-Sync protocol: frame clock input; SPI protocol: data ready output.", 30 FORMAT2 (in) "FORMAT[2:0] Selects Frame-Sync/SPI protocol, TDM/discrete data outputs, fixed/dynamic position TDM data, and modulator mode/normal operating mode.", 31 FORMAT1 (in) "FORMAT[2:0] Selects Frame-Sync/SPI protocol, TDM/discrete data outputs, fixed/dynamic position TDM data, and modulator mode/normal operating mode.", 32 FORMAT0 (in) "FORMAT[2:0] Selects Frame-Sync/SPI protocol, TDM/discrete data outputs, fixed/dynamic position TDM data, and modulator mode/normal operating mode.", 33 MODE1 (in) "MODE[1:0] Selects High-Speed, High-Resolution, Low-Power, or Low-Speed mode operation.", 34 MODE0 (in) "MODE[1:0] Selects High-Speed, High-Resolution, Low-Power, or Low-Speed mode operation.", 35 ~{PWDN8} (in) "P\W\D\N\[8:1] Power-down control for channels 8 through 1.", 36 ~{PWDN7} (in) "P\W\D\N\[8:1] Power-down control for channels 8 through 1.", 37 ~{PWDN6} (in) "P\W\D\N\[8:1] Power-down control for channels 8 through 1.", 38 ~{PWDN5} (in) "P\W\D\N\[8:1] Power-down control for channels 8 through 1.", 39 ~{PWDN4} (in) "P\W\D\N\[8:1] Power-down control for channels 8 through 1.", 40 ~{PWDN3} (in) "P\W\D\N\[8:1] Power-down control for channels 8 through 1.", 41 ~{PWDN2} (in) "P\W\D\N\[8:1] Power-down control for channels 8 through 1.", 42 ~{PWDN1} (in) "P\W\D\N\[8:1] Power-down control for channels 8 through 1.", 45 AINP8 (in) "AINP[8:1] Positive analog input, channels 8 through 1.", 46 AINN8 (in) "AINN[8:1] Negative analog input, channels 8 through 1.", 47 AINP7 (in) "AINP[8:1] Positive analog input, channels 8 through 1.", 48 AINN7 (in) "AINN[8:1] Negative analog input, channels 8 through 1.", 49 AINP6 (in) "AINP[8:1] Positive analog input, channels 8 through 1.", 50 AINN6 (in) "AINN[8:1] Negative analog input, channels 8 through 1.", 51 AINP5 (in) "AINP[8:1] Positive analog input, channels 8 through 1.", 52 AINN5 (in) "AINN[8:1] Negative analog input, channels 8 through 1.", 55 VCOM (out) "AVDD/2 Unbuffered voltage output.", 56 VREFP (in) "Positive reference input.", 57 VREFN (in) "Negative reference input.", 61 AINP4 (in) "AINP[8:1] Positive analog input, channels 8 through 1.", 62 AINN4 (in) "AINN[8:1] Negative analog input, channels 8 through 1.", 63 AINP3 (in) "AINP[8:1] Positive analog input, channels 8 through 1.", 64 AINN3 (in) "AINN[8:1] Negative analog input, channels 8 through 1."
part B pins: 5 AVDD (power) "Analog power supply (4.75V to 5.25V).", 6 AGND (power) "Analog ground; connect to DGND using a single plane.", 7 DGND (power) "Digital ground power supply.", 21 DGND (power) "Digital ground power supply.", 22 IOVDD (power) "I/O power supply (+1.65V to +3.6V)", 23 IOVDD (power) "I/O power supply (+1.65V to +3.6V)", 24 DGND (power) "Digital ground power supply.", 25 DGND (power) "Digital ground power supply.", 26 DVDD (power) "Digital core power supply", 43 AGND (power) "Analog ground; connect to DGND using a single plane.", 44 AVDD (power) "Analog power supply (4.75V to 5.25V).", 53 AVDD (power) "Analog power supply (4.75V to 5.25V).", 54 AGND (power) "Analog ground; connect to DGND using a single plane.", 58 AGND (power) "Analog ground; connect to DGND using a single plane.", 59 AGND (power) "Analog ground; connect to DGND using a single plane.", 60 AVDD (power) "Analog power supply (4.75V to 5.25V).", 65 EP

## ADS1278IPAPT
designator U?
Octal, Simultaneous Sampling, 24-Bit ADC, -40 to 105 degC, 64-pin PQFP (PAP64), Green (RoHS & no Sb/Br); Manufacturer: Texas Instruments; PartNumber: ADS1278IPAPT; # Input Channels: 8; Analog Voltage AV/DD(Max)(V): 5.25; Analog Voltage AV/DD(Min)(V): 4.75; Architecture: Delta-Sigma; Digital Supply(Max)(V): 3.6; Digital Supply(Min)(V): 1.65; Interface: Serial SPI; Resolution(Bits): 24; Sample Rate (max) (SPS): 144k; SNR(dB): 111; SubFamily: Precision ADC (<=10MSPS); DatasheetVersion: SBAS367F; PackageVersion: 4147702/C, 08/2003; PackageReference: PAP64-6495X6495TP; PackageDescription: 64-Pin PowerPAD(TM) Plastic Quad Flatpack, Body 10 x 10 mm, Pitch 0.5 mm; Supplier 1: Digi-Key; Supplier Part Number 1: 296-21983-2-ND; Supplier 2: Digi-Key; Supplier Part Number 2: 296-21983-1-ND; Supplier 3: Digi-Key; Supplier Part Number 3: 296-21983-6-ND; Supplier 4: Farnell; Supplier Part Number 4: 1603419; Supplier 5: Newark; Supplier Part Number 5: 50M8811; Supplier 6: Mouser; Supplier Part Number 6: 595-ADS1278IPAPT; Mounting Technology: Surface Mount; Code_JEDEC: MS-026; ComponentLink1Description: Manufacturer URL; ComponentLink1URL: http://www.ti.com/; ComponentLink2Description: Datasheet; ComponentLink2URL: http://www.ti.com/lit/ds/symlink/ads1274.pdf; ComponentLink3Description: Package Specification; ComponentLink3URL: http://www.ti.com/lit/ml/mpqf071b/mpqf071b.pdf
footprint TI-PAP64-6495X6495TP_N (QFP, 64-Leads, Body 10x10mm, Pitch 0.5mm, Thermal Pad 7x7mm, IPC Medium Density)
footprint TI-PAP64-6495X6495TP_L (QFP, 64-Leads, Body 10x10mm, Pitch 0.5mm, Thermal Pad 7x7mm, IPC High Density)
footprint TI-PAP64-6495X6495TP_M (QFP, 64-Leads, Body 10x10mm, Pitch 0.5mm, Thermal Pad 7x7mm, IPC Low Density)
part A pins: 1 AINP2 (in) "AINP[8:1] Positive analog input, channels 8 through 1.", 2 AINN2 (in) "AINN[8:1] Negative analog input, channels 8 through 1.", 3 AINP1 (in) "AINP[8:1] Positive analog input, channels 8 through 1.", 4 AINN1 (in) "AINN[8:1] Negative analog input, channels 8 through 1.", 8 TEST0 (in) "TEST[1:0] Test mode select: 00 = Normal operation 01 = Do not use 11 = Test mode 10 = Do not use", 9 TEST1 (in) "TEST[1:0] Test mode select: 00 = Normal operation 01 = Do not use 11 = Test mode 10 = Do not use", 10 CLKDIV (in) "CLK input divider control:1 = 37MHz (High-Speed mode)/otherwise 27MHz  0 = 13.5MHz (low-power)/5.4MHz (low-speed)", 11 ~{SYNC} (io) "Synchronize input (all channels).", 12 DIN (in) "Daisy-chain data input.", 13 DOUT8 (out) "DOUT[8:1] Data output for channels 8 through 1.", 14 DOUT7 (out) "DOUT[8:1] Data output for channels 8 through 1.", 15 DOUT6 (out) "DOUT[8:1] Data output for channels 8 through 1.", 16 DOUT5 (out) "DOUT[8:1] Data output for channels 8 through 1.", 17 DOUT4 (out) "DOUT[8:1] Data output for channels 8 through 1.", 18 DOUT3 (out) "DOUT[8:1] Data output for channels 8 through 1.", 19 DOUT2 (out) "DOUT[8:1] Data output for channels 8 through 1.", 20 DOUT1 (out) "DOUT[8:1] Data output for channels 8 through 1.", 27 CLK (in) "Master clock input (fCLK).", 28 SCLK (io) "Serial clock input, Modulator clock output", 29 ~{DRDY}/FSYNC (io) "Frame-Sync protocol: frame clock input; SPI protocol: data ready output.", 30 FORMAT2 (in) "FORMAT[2:0] Selects Frame-Sync/SPI protocol, TDM/discrete data outputs, fixed/dynamic position TDM data, and modulator mode/normal operating mode.", 31 FORMAT1 (in) "FORMAT[2:0] Selects Frame-Sync/SPI protocol, TDM/discrete data outputs, fixed/dynamic position TDM data, and modulator mode/normal operating mode.", 32 FORMAT0 (in) "FORMAT[2:0] Selects Frame-Sync/SPI protocol, TDM/discrete data outputs, fixed/dynamic position TDM data, and modulator mode/normal operating mode.", 33 MODE1 (in) "MODE[1:0] Selects High-Speed, High-Resolution, Low-Power, or Low-Speed mode operation.", 34 MODE0 (in) "MODE[1:0] Selects High-Speed, High-Resolution, Low-Power, or Low-Speed mode operation.", 35 ~{PWDN8} (in) "P\W\D\N\[8:1] Power-down control for channels 8 through 1.", 36 ~{PWDN7} (in) "P\W\D\N\[8:1] Power-down control for channels 8 through 1.", 37 ~{PWDN6} (in) "P\W\D\N\[8:1] Power-down control for channels 8 through 1.", 38 ~{PWDN5} (in) "P\W\D\N\[8:1] Power-down control for channels 8 through 1.", 39 ~{PWDN4} (in) "P\W\D\N\[8:1] Power-down control for channels 8 through 1.", 40 ~{PWDN3} (in) "P\W\D\N\[8:1] Power-down control for channels 8 through 1.", 41 ~{PWDN2} (in) "P\W\D\N\[8:1] Power-down control for channels 8 through 1.", 42 ~{PWDN1} (in) "P\W\D\N\[8:1] Power-down control for channels 8 through 1.", 45 AINP8 (in) "AINP[8:1] Positive analog input, channels 8 through 1.", 46 AINN8 (in) "AINN[8:1] Negative analog input, channels 8 through 1.", 47 AINP7 (in) "AINP[8:1] Positive analog input, channels 8 through 1.", 48 AINN7 (in) "AINN[8:1] Negative analog input, channels 8 through 1.", 49 AINP6 (in) "AINP[8:1] Positive analog input, channels 8 through 1.", 50 AINN6 (in) "AINN[8:1] Negative analog input, channels 8 through 1.", 51 AINP5 (in) "AINP[8:1] Positive analog input, channels 8 through 1.", 52 AINN5 (in) "AINN[8:1] Negative analog input, channels 8 through 1.", 55 VCOM (out) "AVDD/2 Unbuffered voltage output.", 56 VREFP (in) "Positive reference input.", 57 VREFN (in) "Negative reference input.", 61 AINP4 (in) "AINP[8:1] Positive analog input, channels 8 through 1.", 62 AINN4 (in) "AINN[8:1] Negative analog input, channels 8 through 1.", 63 AINP3 (in) "AINP[8:1] Positive analog input, channels 8 through 1.", 64 AINN3 (in) "AINN[8:1] Negative analog input, channels 8 through 1."
part B pins: 5 AVDD (power) "Analog power supply (4.75V to 5.25V).", 6 AGND (power) "Analog ground; connect to DGND using a single plane.", 7 DGND (power) "Digital ground power supply.", 21 DGND (power) "Digital ground power supply.", 22 IOVDD (power) "I/O power supply (+1.65V to +3.6V)", 23 IOVDD (power) "I/O power supply (+1.65V to +3.6V)", 24 DGND (power) "Digital ground power supply.", 25 DGND (power) "Digital ground power supply.", 26 DVDD (power) "Digital core power supply", 43 AGND (power) "Analog ground; connect to DGND using a single plane.", 44 AVDD (power) "Analog power supply (4.75V to 5.25V).", 53 AVDD (power) "Analog power supply (4.75V to 5.25V).", 54 AGND (power) "Analog ground; connect to DGND using a single plane.", 58 AGND (power) "Analog ground; connect to DGND using a single plane.", 59 AGND (power) "Analog ground; connect to DGND using a single plane.", 60 AVDD (power) "Analog power supply (4.75V to 5.25V).", 65 EP